# Altium schematic symbol library Cap_TDK_CGB2A1X5R1C474K033BC_0.47uf.SchLib: 1 symbol
Pins are listed as number, name and electrical type; pins without a type are passive.

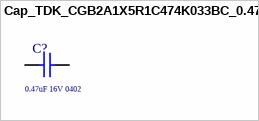
[diagram p0: symbol Cap_TDK_CGB2A1X5R1C474K033BC_0.47uf]

## Cap_TDK_CGB2A1X5R1C474K033BC_0.47uf
designator C?  Series: 0.47uF 16V 0402  (hidden comment: Cap_TDK_CGB2A1X5R1C474K033BC_0.47uf)
CAP CER 0.47uF 16V X5R 0402; Supplier 1: Mouser; Supplier Part Number 1: 810-CGB2A1X5R1C474KC
footprint Cap_TDK_CGB2A1X5R1C474K033BC_0.47uf
pins: 1, 2